# EAGLE library part XCV100ES_CS144 (library xilinx-xcv)
xcv100es_cs144 edit this description Auto generated by make-symbol-device-package-bsdl.ulp Rev. 26 Source: xcv100es_cs144.bsd
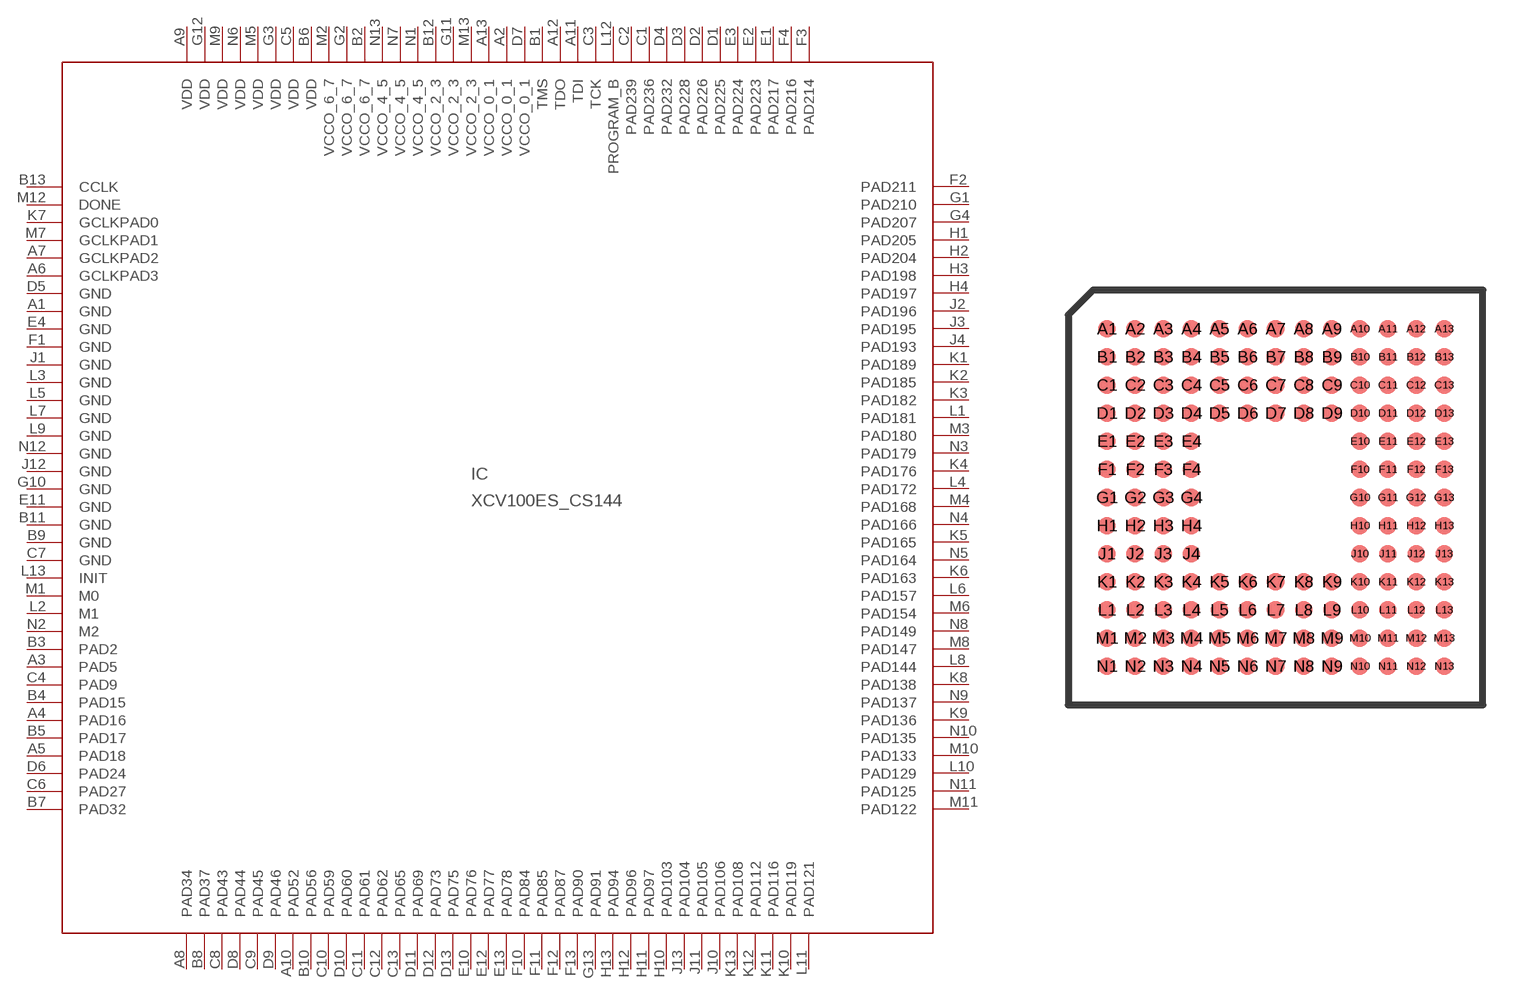
[diagram p25: symbol with the pads of CS144; footprint CS144]

Designator prefix IC

## XCV100ES_CS144 (OC_FARNELL: unknown; OC_NEWARK: unknown)  [CS144]
A1  GND  pwr
A2  VCCO_0_1  pwr
A3  PAD5
A4  PAD16
A5  PAD18
A6  GCLKPAD3  in
A7  GCLKPAD2  in
A8  PAD34
A9  VDD  pwr
A10  PAD52
A11  TDI  in
A12  TDO  out
A13  VCCO_0_1  pwr
B1  TMS  in
B2  VCCO_6_7  pwr
B3  PAD2
B4  PAD15
B5  PAD17
B6  VDD  pwr
B7  PAD32
B8  PAD37
B9  GND  pwr
B10  PAD56
B11  GND  pwr
B12  VCCO_2_3  pwr
B13  CCLK
C1  PAD236
C2  PAD239
C3  TCK  in
C4  PAD9
C5  VDD  pwr
C6  PAD27
C7  GND  pwr
C8  PAD43
C9  PAD45
C10  PAD59
C11  PAD61
C12  PAD62
C13  PAD65
D1  PAD225
D2  PAD226
D3  PAD228
D4  PAD232
D5  GND  pwr
D6  PAD24
D7  VCCO_0_1  pwr
D8  PAD44
D9  PAD46
D10  PAD60
D11  PAD69
D12  PAD73
D13  PAD75
E1  PAD217
E2  PAD223
E3  PAD224
E4  GND  pwr
E10  PAD76
E11  GND  pwr
E12  PAD77
E13  PAD78
F1  GND  pwr
F2  PAD211
F3  PAD214
F4  PAD216
F10  PAD84
F11  PAD85
F12  PAD87
F13  PAD90
G1  PAD210
G2  VCCO_6_7  pwr
G3  VDD  pwr
G4  PAD207
G10  GND  pwr
G11  VCCO_2_3  pwr
G12  VDD  pwr
G13  PAD91
H1  PAD205
H2  PAD204
H3  PAD198
H4  PAD197
H10  PAD103
H11  PAD97
H12  PAD96
H13  PAD94
J1  GND  pwr
J2  PAD196
J3  PAD195
J4  PAD193
J10  PAD106
J11  PAD105
J12  GND  pwr
J13  PAD104
K1  PAD189
K2  PAD185
K3  PAD182
K4  PAD176
K5  PAD165
K6  PAD163
K7  GCLKPAD0  in
K8  PAD138
K9  PAD136
K10  PAD119
K11  PAD116
K12  PAD112
K13  PAD108
L1  PAD181
L2  M1  in
L3  GND  pwr
L4  PAD172
L5  GND  pwr
L6  PAD157
L7  GND  pwr
L8  PAD144
L9  GND  pwr
L10  PAD129
L11  PAD121
L12  PROGRAM_B  in
L13  INIT
M1  M0  in
M2  VCCO_6_7  pwr
M3  PAD180
M4  PAD168
M5  VDD  pwr
M6  PAD154
M7  GCLKPAD1  in
M8  PAD147
M9  VDD  pwr
M10  PAD133
M11  PAD122
M12  DONE
M13  VCCO_2_3  pwr
N1  VCCO_4_5  pwr
N2  M2  in
N3  PAD179
N4  PAD166
N5  PAD164
N6  VDD  pwr
N7  VCCO_4_5  pwr
N8  PAD149
N9  PAD137
N10  PAD135
N11  PAD125
N12  GND  pwr
N13  VCCO_4_5  pwr

## Footprint CS144 (pad centres in mm)
xcv100e_cs144 edit this description Auto generated by make-symbol-device-package-bsdl.ulp Rev. 26 Source: xcv100e_cs144.bsd
smd 0.5 x 0.5: A1 -4.8,4.8; A2 -4,4.8; A3 -3.2,4.8; A4 -2.4,4.8; A5 -1.6,4.8; A6 -0.8,4.8; A7 0,4.8; A8 0.8,4.8; A9 1.6,4.8; A10 2.4,4.8; A11 3.2,4.8; A12 4,4.8; A13 4.8,4.8; B1 -4.8,4; B2 -4,4; B3 -3.2,4; B4 -2.4,4; B5 -1.6,4; B6 -0.8,4; B7 0,4; B8 0.8,4; B9 1.6,4; B10 2.4,4; B11 3.2,4; B12 4,4; B13 4.8,4; C1 -4.8,3.2; C2 -4,3.2; C3 -3.2,3.2; C4 -2.4,3.2; C5 -1.6,3.2; C6 -0.8,3.2; C7 0,3.2; C8 0.8,3.2; C9 1.6,3.2; C10 2.4,3.2; C11 3.2,3.2; C12 4,3.2; C13 4.8,3.2; D1 -4.8,2.4; D2 -4,2.4; D3 -3.2,2.4; D4 -2.4,2.4; D5 -1.6,2.4; D6 -0.8,2.4; D7 0,2.4; D8 0.8,2.4; D9 1.6,2.4; D10 2.4,2.4; D11 3.2,2.4; D12 4,2.4; D13 4.8,2.4; E1 -4.8,1.6; E2 -4,1.6; E3 -3.2,1.6; E4 -2.4,1.6; E10 2.4,1.6; E11 3.2,1.6; E12 4,1.6; E13 4.8,1.6; F1 -4.8,0.8; F2 -4,0.8; F3 -3.2,0.8; F4 -2.4,0.8; F10 2.4,0.8; F11 3.2,0.8; F12 4,0.8; F13 4.8,0.8; G1 -4.8,0; G2 -4,0; G3 -3.2,0; G4 -2.4,0; G10 2.4,0; G11 3.2,0; G12 4,0; G13 4.8,0; H1 -4.8,-0.8; H2 -4,-0.8; H3 -3.2,-0.8; H4 -2.4,-0.8; H10 2.4,-0.8; H11 3.2,-0.8; H12 4,-0.8; H13 4.8,-0.8; J1 -4.8,-1.6; J2 -4,-1.6; J3 -3.2,-1.6; J4 -2.4,-1.6; J10 2.4,-1.6; J11 3.2,-1.6; J12 4,-1.6; J13 4.8,-1.6; K1 -4.8,-2.4; K2 -4,-2.4; K3 -3.2,-2.4; K4 -2.4,-2.4; K5 -1.6,-2.4; K6 -0.8,-2.4; K7 0,-2.4; K8 0.8,-2.4; K9 1.6,-2.4; K10 2.4,-2.4; K11 3.2,-2.4; K12 4,-2.4; K13 4.8,-2.4; L1 -4.8,-3.2; L2 -4,-3.2; L3 -3.2,-3.2; L4 -2.4,-3.2; L5 -1.6,-3.2; L6 -0.8,-3.2; L7 0,-3.2; L8 0.8,-3.2; L9 1.6,-3.2; L10 2.4,-3.2; L11 3.2,-3.2; L12 4,-3.2; L13 4.8,-3.2; M1 -4.8,-4; M2 -4,-4; M3 -3.2,-4; M4 -2.4,-4; M5 -1.6,-4; M6 -0.8,-4; M7 0,-4; M8 0.8,-4; M9 1.6,-4; M10 2.4,-4; M11 3.2,-4; M12 4,-4; M13 4.8,-4; N1 -4.8,-4.8; N2 -4,-4.8; N3 -3.2,-4.8; N4 -2.4,-4.8; N5 -1.6,-4.8; N6 -0.8,-4.8; N7 0,-4.8; N8 0.8,-4.8; N9 1.6,-4.8; N10 2.4,-4.8; N11 3.2,-4.8; N12 4,-4.8; N13 4.8,-4.8